# Altium footprint library RY210005.PcbLib: 1 footprints
Each footprint in its own frame and in the unit in brackets; x right, y up, seen from the top. Pads: shape width x height; smd on the part's side, far side on the other; paste and mask are expansions set on the pad; w line width, h text height; cw(c..) or ccw(c..) is an arc to the next point about the centre after c.
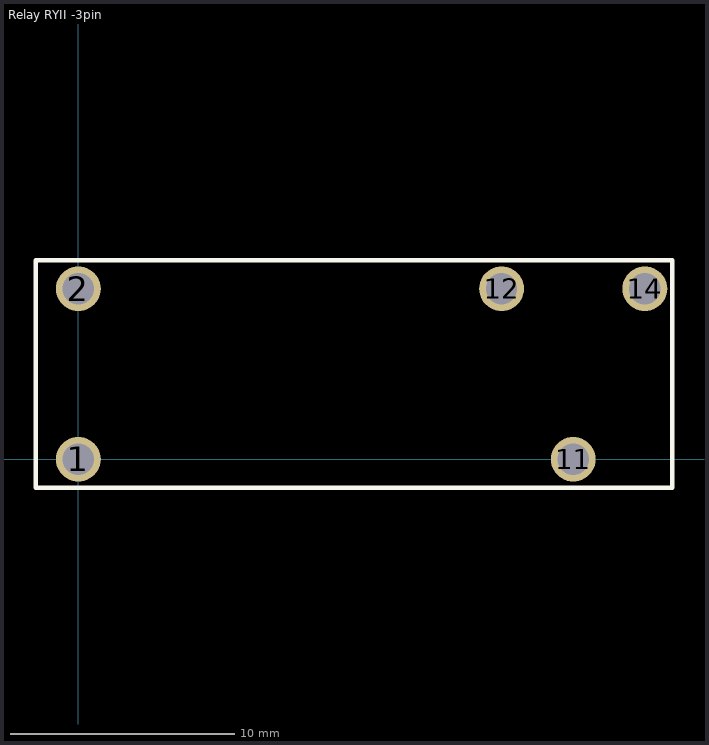
[diagram p0: the footprint, top view; thin cyan lines are the x and y axes]

## Relay RYII -3pin [mm]
pads (5):
  round 2 hole 1.4: 1(0,0) 2(0,7.62) 11(22.1,0) 12(18.9,7.62) 14(25.3,7.62)
Top Overlay:
  lines w0.2: -1.9,-1.27 26.52,-1.27 26.52,8.89 -1.9,8.89 -1.9,-1.27